# Altium schematic symbol library spacemonochrome-WR_TBL.SchLib: 1696 symbols (part 24 of 28)
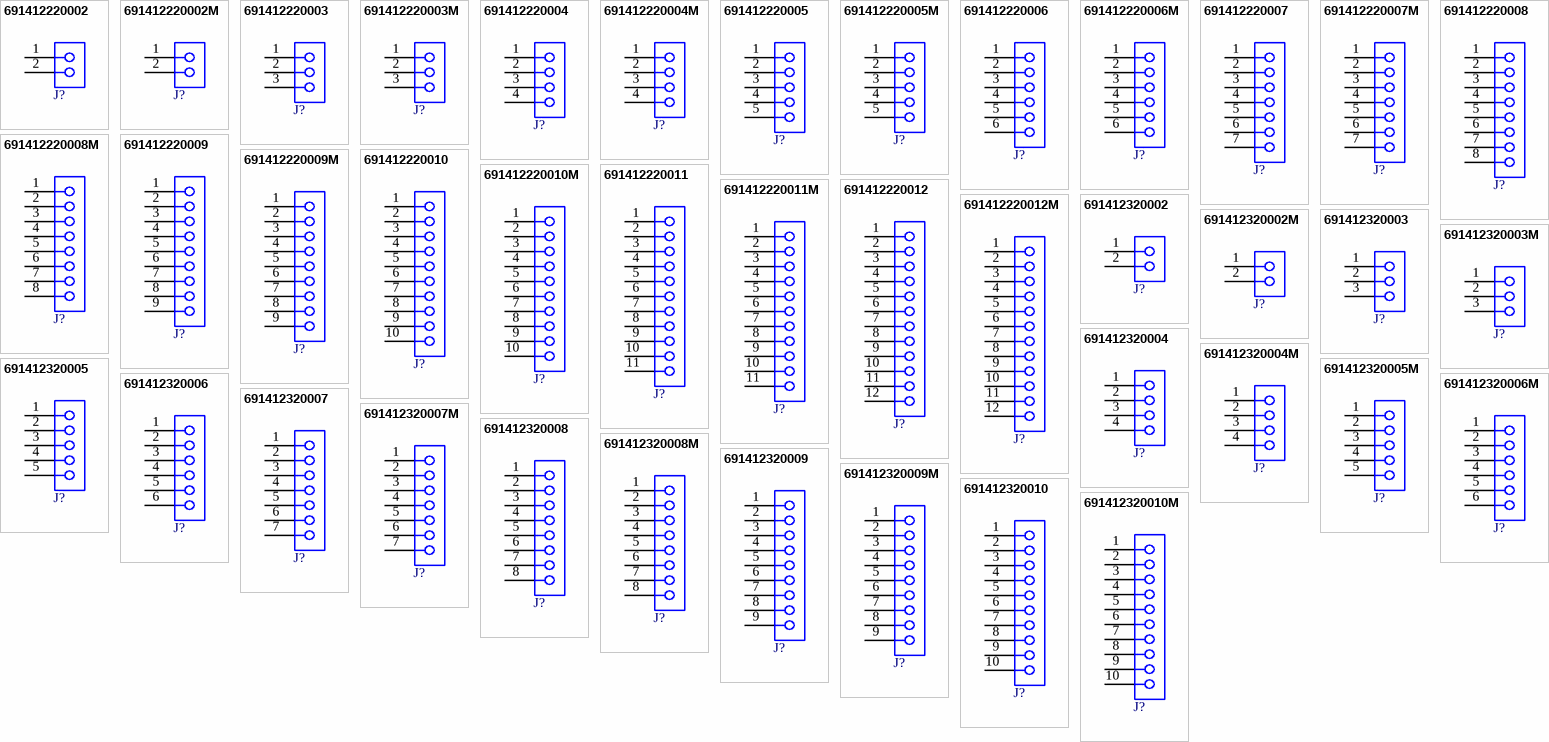
[diagram p65: symbols 691412220002 to 691412320010M]

## 691412320005
designator J?  (value not drawn)
WR-TBL Series 4123 45° Entry, THT, pitch 3.81mm, 5p; Manufacturer: Wurth Elektronik; Modularity: No; Rated Current: 4A; Working Voltage: 300V; ComponentLink1Description: Website Link; ComponentLink1URL: https://www.we-online.com/redexpert/article/691412320005?ad; ComponentLink2Description: Datasheet Link; ComponentLink2URL: https://www.we-online.com/redexpert/spec/691412320005?ad; Manufacturer Part Number: 691412320005; Category: Terminal Blocks; Match Code: WR-TBL; Mount: Through Hole; Operating Temperature Max: 120°C; Operating Temperature Min: -30°C; Packaging: Box; Application: Screwless; Number of Pins: 5; Number of Rows: 1; Orientation: 45°; Pitch: 3.81mm
footprint 691412320005
pins: 1, 2, 3, 4, 5

## 691412320005M
designator J?  (value not drawn)
WR-TBL Series 4123M 45° Entry, THT, pitch 3.81mm, 5p; Manufacturer: Wurth Elektronik; Modularity: No; Rated Current: 4A; Working Voltage: 300V; ComponentLink1Description: Website Link; ComponentLink1URL: https://www.we-online.com/redexpert/article/691412320005M?ad; ComponentLink2Description: Datasheet Link; ComponentLink2URL: https://www.we-online.com/redexpert/spec/691412320005M?ad; Manufacturer Part Number: 691412320005M; Category: Terminal Blocks; Match Code: WR-TBL; Mount: Through Hole; Operating Temperature Max: 120°C; Operating Temperature Min: -30°C; Packaging: Box; Application: Screwless; Number of Pins: 5; Number of Rows: 1; Orientation: 45°; Pitch: 3.81mm
footprint 691412320005M
pins: 1, 2, 3, 4, 5

## 691412320006
designator J?  (value not drawn)
WR-TBL Series 4123 45° Entry, THT, pitch 3.81mm, 6p; Manufacturer: Wurth Elektronik; Modularity: No; Rated Current: 4A; Working Voltage: 300V; ComponentLink1Description: Website Link; ComponentLink1URL: https://www.we-online.com/redexpert/article/691412320006?ad; ComponentLink2Description: Datasheet Link; ComponentLink2URL: https://www.we-online.com/redexpert/spec/691412320006?ad; Manufacturer Part Number: 691412320006; Category: Terminal Blocks; Match Code: WR-TBL; Mount: Through Hole; Operating Temperature Max: 120°C; Operating Temperature Min: -30°C; Packaging: Box; Application: Screwless; Number of Pins: 6; Number of Rows: 1; Orientation: 45°; Pitch: 3.81mm
footprint 691412320006
pins: 1, 2, 3, 4, 5, 6

## 691412320006M
designator J?  (value not drawn)
WR-TBL Series 4123M 45° Entry, THT, pitch 3.81mm, 6p; Manufacturer: Wurth Elektronik; Modularity: No; Rated Current: 4A; Working Voltage: 300V; ComponentLink1Description: Website Link; ComponentLink1URL: https://www.we-online.com/redexpert/article/691412320006M?ad; ComponentLink2Description: Datasheet Link; ComponentLink2URL: https://www.we-online.com/redexpert/spec/691412320006M?ad; Manufacturer Part Number: 691412320006M; Category: Terminal Blocks; Match Code: WR-TBL; Mount: Through Hole; Operating Temperature Max: 120°C; Operating Temperature Min: -30°C; Packaging: Box; Application: Screwless; Number of Pins: 6; Number of Rows: 1; Orientation: 45°; Pitch: 3.81mm
footprint 691412320006M
pins: 1, 2, 3, 4, 5, 6

## 691412320007
designator J?  (value not drawn)
WR-TBL Series 4123 45° Entry, THT, pitch 3.81mm, 7p; Manufacturer: Wurth Elektronik; Modularity: No; Rated Current: 4A; Working Voltage: 300V; ComponentLink1Description: Website Link; ComponentLink1URL: https://www.we-online.com/redexpert/article/691412320007?ad; ComponentLink2Description: Datasheet Link; ComponentLink2URL: https://www.we-online.com/redexpert/spec/691412320007?ad; Manufacturer Part Number: 691412320007; Category: Terminal Blocks; Match Code: WR-TBL; Mount: Through Hole; Operating Temperature Max: 120°C; Operating Temperature Min: -30°C; Packaging: Box; Application: Screwless; Number of Pins: 7; Number of Rows: 1; Orientation: 45°; Pitch: 3.81mm
footprint 691412320007
pins: 1, 2, 3, 4, 5, 6, 7

## 691412320007M
designator J?  (value not drawn)
WR-TBL Series 4123M 45° Entry, THT, pitch 3.81mm, 7p; Manufacturer: Wurth Elektronik; Modularity: No; Rated Current: 4A; Working Voltage: 300V; ComponentLink1Description: Website Link; ComponentLink1URL: https://www.we-online.com/redexpert/article/691412320007M?ad; ComponentLink2Description: Datasheet Link; ComponentLink2URL: https://www.we-online.com/redexpert/spec/691412320007M?ad; Manufacturer Part Number: 691412320007M; Category: Terminal Blocks; Match Code: WR-TBL; Mount: Through Hole; Operating Temperature Max: 120°C; Operating Temperature Min: -30°C; Packaging: Box; Application: Screwless; Number of Pins: 7; Number of Rows: 1; Orientation: 45°; Pitch: 3.81mm
footprint 691412320007M
pins: 1, 2, 3, 4, 5, 6, 7

## 691412320008
designator J?  (value not drawn)
WR-TBL Series 4123 45° Entry, THT, pitch 3.81mm, 8p; Manufacturer: Wurth Elektronik; Modularity: No; Rated Current: 4A; Working Voltage: 300V; ComponentLink1Description: Website Link; ComponentLink1URL: https://www.we-online.com/redexpert/article/691412320008?ad; ComponentLink2Description: Datasheet Link; ComponentLink2URL: https://www.we-online.com/redexpert/spec/691412320008?ad; Manufacturer Part Number: 691412320008; Category: Terminal Blocks; Match Code: WR-TBL; Mount: Through Hole; Operating Temperature Max: 120°C; Operating Temperature Min: -30°C; Packaging: Box; Application: Screwless; Number of Pins: 8; Number of Rows: 1; Orientation: 45°; Pitch: 3.81mm
footprint 691412320008
pins: 1, 2, 3, 4, 5, 6, 7, 8

## 691412320008M
designator J?  (value not drawn)
WR-TBL Series 4123M 45° Entry, THT, pitch 3.81mm, 8p; Manufacturer: Wurth Elektronik; Modularity: No; Rated Current: 4A; Working Voltage: 300V; ComponentLink1Description: Website Link; ComponentLink1URL: https://www.we-online.com/redexpert/article/691412320008M?ad; ComponentLink2Description: Datasheet Link; ComponentLink2URL: https://www.we-online.com/redexpert/spec/691412320008M?ad; Manufacturer Part Number: 691412320008M; Category: Terminal Blocks; Match Code: WR-TBL; Mount: Through Hole; Operating Temperature Max: 120°C; Operating Temperature Min: -30°C; Packaging: Box; Application: Screwless; Number of Pins: 8; Number of Rows: 1; Orientation: 45°; Pitch: 3.81mm
footprint 691412320008M
pins: 1, 2, 3, 4, 5, 6, 7, 8

## 691412320009
designator J?  (value not drawn)
WR-TBL Series 4123 45° Entry, THT, pitch 3.81mm, 9p; Manufacturer: Wurth Elektronik; Modularity: No; Rated Current: 4A; Working Voltage: 300V; ComponentLink1Description: Website Link; ComponentLink1URL: https://www.we-online.com/redexpert/article/691412320009?ad; ComponentLink2Description: Datasheet Link; ComponentLink2URL: https://www.we-online.com/redexpert/spec/691412320009?ad; Manufacturer Part Number: 691412320009; Category: Terminal Blocks; Match Code: WR-TBL; Mount: Through Hole; Operating Temperature Max: 120°C; Operating Temperature Min: -30°C; Packaging: Box; Application: Screwless; Number of Pins: 9; Number of Rows: 1; Orientation: 45°; Pitch: 3.81mm
footprint 691412320009
pins: 1, 2, 3, 4, 5, 6, 7, 8, 9

## 691412320009M
designator J?  (value not drawn)
WR-TBL Series 4123M 45° Entry, THT, pitch 3.81mm, 9p; Manufacturer: Wurth Elektronik; Modularity: No; Rated Current: 4A; Working Voltage: 300V; ComponentLink1Description: Website Link; ComponentLink1URL: https://www.we-online.com/redexpert/article/691412320009M?ad; ComponentLink2Description: Datasheet Link; ComponentLink2URL: https://www.we-online.com/redexpert/spec/691412320009M?ad; Manufacturer Part Number: 691412320009M; Category: Terminal Blocks; Match Code: WR-TBL; Mount: Through Hole; Operating Temperature Max: 120°C; Operating Temperature Min: -30°C; Packaging: Box; Application: Screwless; Number of Pins: 9; Number of Rows: 1; Orientation: 45°; Pitch: 3.81mm
footprint 691412320009M
pins: 1, 2, 3, 4, 5, 6, 7, 8, 9

## 691412320010
designator J?  (value not drawn)
WR-TBL Series 4123 45° Entry, THT, pitch 3.81mm, 10p; Manufacturer: Wurth Elektronik; Modularity: No; Rated Current: 4A; Working Voltage: 300V; ComponentLink1Description: Website Link; ComponentLink1URL: https://www.we-online.com/redexpert/article/691412320010?ad; ComponentLink2Description: Datasheet Link; ComponentLink2URL: https://www.we-online.com/redexpert/spec/691412320010?ad; Manufacturer Part Number: 691412320010; Category: Terminal Blocks; Match Code: WR-TBL; Mount: Through Hole; Operating Temperature Max: 120°C; Operating Temperature Min: -30°C; Packaging: Box; Application: Screwless; Number of Pins: 10; Number of Rows: 1; Orientation: 45°; Pitch: 3.81mm
footprint 691412320010
pins: 1, 2, 3, 4, 5, 6, 7, 8, 9, 10

## 691412320010M
designator J?  (value not drawn)
WR-TBL Series 4123M 45° Entry, THT, pitch 3.81mm, 10p; Manufacturer: Wurth Elektronik; Modularity: No; Rated Current: 4A; Working Voltage: 300V; ComponentLink1Description: Website Link; ComponentLink1URL: https://www.we-online.com/redexpert/article/691412320010M?ad; ComponentLink2Description: Datasheet Link; ComponentLink2URL: https://www.we-online.com/redexpert/spec/691412320010M?ad; Manufacturer Part Number: 691412320010M; Category: Terminal Blocks; Match Code: WR-TBL; Mount: Through Hole; Operating Temperature Max: 120°C; Operating Temperature Min: -30°C; Packaging: Box; Application: Screwless; Number of Pins: 10; Number of Rows: 1; Orientation: 45°; Pitch: 3.81mm
footprint 691412320010M
pins: 1, 2, 3, 4, 5, 6, 7, 8, 9, 10

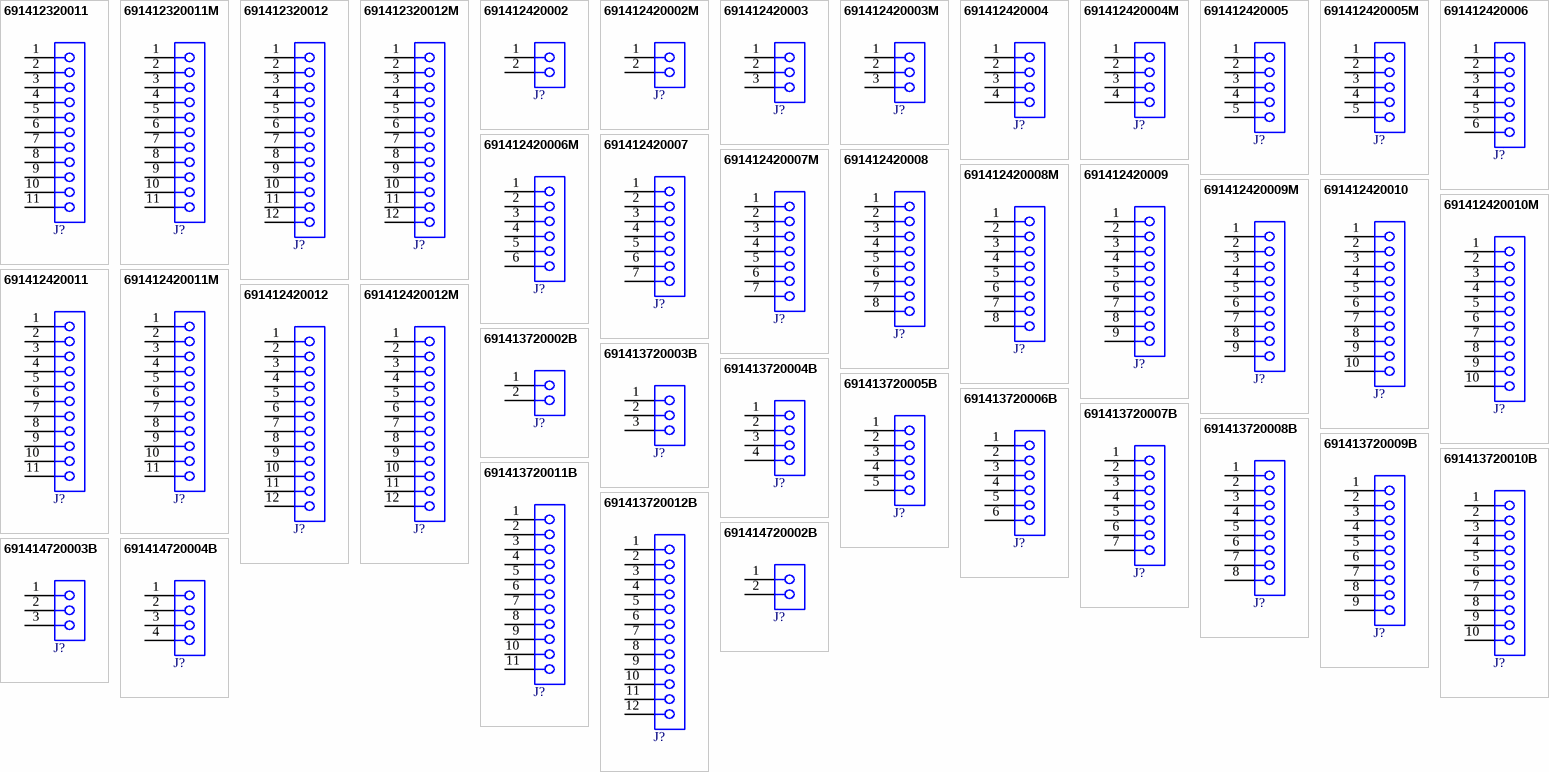
[diagram p36: symbols 691412320011 to 691414720004B]

## 691412320011
designator J?  (value not drawn)
WR-TBL Series 4123 45° Entry, THT, pitch 3.81mm, 11p; Manufacturer: Wurth Elektronik; Modularity: No; Rated Current: 4A; Working Voltage: 300V; ComponentLink1Description: Website Link; ComponentLink1URL: https://www.we-online.com/redexpert/article/691412320011?ad; ComponentLink2Description: Datasheet Link; ComponentLink2URL: https://www.we-online.com/redexpert/spec/691412320011?ad; Manufacturer Part Number: 691412320011; Category: Terminal Blocks; Match Code: WR-TBL; Mount: Through Hole; Operating Temperature Max: 120°C; Operating Temperature Min: -30°C; Packaging: Box; Application: Screwless; Number of Pins: 11; Number of Rows: 1; Orientation: 45°; Pitch: 3.81mm
footprint 691412320011
pins: 1, 2, 3, 4, 5, 6, 7, 8, 9, 10, 11

## 691412320011M
designator J?  (value not drawn)
WR-TBL Series 4123M 45° Entry, THT, pitch 3.81mm, 11p; Manufacturer: Wurth Elektronik; Modularity: No; Rated Current: 4A; Working Voltage: 300V; ComponentLink1Description: Website Link; ComponentLink1URL: https://www.we-online.com/redexpert/article/691412320011M?ad; ComponentLink2Description: Datasheet Link; ComponentLink2URL: https://www.we-online.com/redexpert/spec/691412320011M?ad; Manufacturer Part Number: 691412320011M; Category: Terminal Blocks; Match Code: WR-TBL; Mount: Through Hole; Operating Temperature Max: 120°C; Operating Temperature Min: -30°C; Packaging: Box; Application: Screwless; Number of Pins: 11; Number of Rows: 1; Orientation: 45°; Pitch: 3.81mm
footprint 691412320011M
pins: 1, 2, 3, 4, 5, 6, 7, 8, 9, 10, 11

## 691412320012
designator J?  (value not drawn)
WR-TBL Series 4123 45° Entry, THT, pitch 3.81mm, 12p; Manufacturer: Wurth Elektronik; Modularity: No; Rated Current: 4A; Working Voltage: 300V; ComponentLink1Description: Website Link; ComponentLink1URL: https://www.we-online.com/redexpert/article/691412320012?ad; ComponentLink2Description: Datasheet Link; ComponentLink2URL: https://www.we-online.com/redexpert/spec/691412320012?ad; Manufacturer Part Number: 691412320012; Category: Terminal Blocks; Match Code: WR-TBL; Mount: Through Hole; Operating Temperature Max: 120°C; Operating Temperature Min: -30°C; Packaging: Box; Application: Screwless; Number of Pins: 12; Number of Rows: 1; Orientation: 45°; Pitch: 3.81mm
footprint 691412320012
pins: 1, 2, 3, 4, 5, 6, 7, 8, 9, 10, 11, 12

## 691412320012M
designator J?  (value not drawn)
WR-TBL Series 4123M 45° Entry, THT, pitch 3.81mm, 12p; Manufacturer: Wurth Elektronik; Modularity: No; Rated Current: 4A; Working Voltage: 300V; ComponentLink1Description: Website Link; ComponentLink1URL: https://www.we-online.com/redexpert/article/691412320012M?ad; ComponentLink2Description: Datasheet Link; ComponentLink2URL: https://www.we-online.com/redexpert/spec/691412320012M?ad; Manufacturer Part Number: 691412320012M; Category: Terminal Blocks; Match Code: WR-TBL; Mount: Through Hole; Operating Temperature Max: 120°C; Operating Temperature Min: -30°C; Packaging: Box; Application: Screwless; Number of Pins: 12; Number of Rows: 1; Orientation: 45°; Pitch: 3.81mm
footprint 691412320012M
pins: 1, 2, 3, 4, 5, 6, 7, 8, 9, 10, 11, 12

## 691412420002
designator J?  (value not drawn)
WR-TBL Series 4124 45° Entry, THT, pitch 7.62mm, 2p; Manufacturer: Wurth Elektronik; Modularity: No; Rated Current: 4A; Working Voltage: 300V; ComponentLink1Description: Website Link; ComponentLink1URL: https://www.we-online.com/redexpert/article/691412420002?ad; ComponentLink2Description: Datasheet Link; ComponentLink2URL: https://www.we-online.com/redexpert/spec/691412420002?ad; Manufacturer Part Number: 691412420002; Category: Terminal Blocks; Match Code: WR-TBL; Mount: Through Hole; Operating Temperature Max: 120°C; Operating Temperature Min: -30°C; Packaging: Box; Application: Screwless; Number of Pins: 2; Number of Rows: 1; Orientation: 45°; Pitch: 7.62mm
footprint 691412420002
pins: 1, 2

## 691412420002M
designator J?  (value not drawn)
WR-TBL Series 4124M 45° Entry, THT, pitch 7.62mm, 2p; Manufacturer: Wurth Elektronik; Modularity: No; Rated Current: 4A; Working Voltage: 300V; ComponentLink1Description: Website Link; ComponentLink1URL: https://www.we-online.com/redexpert/article/691412420002M?ad; ComponentLink2Description: Datasheet Link; ComponentLink2URL: https://www.we-online.com/redexpert/spec/691412420002M?ad; Manufacturer Part Number: 691412420002M; Category: Terminal Blocks; Match Code: WR-TBL; Mount: Through Hole; Operating Temperature Max: 120°C; Operating Temperature Min: -30°C; Packaging: Box; Application: Screwless; Number of Pins: 2; Number of Rows: 1; Orientation: 45°; Pitch: 7.62mm
footprint 691412420002M
pins: 1, 2

## 691412420003
designator J?  (value not drawn)
WR-TBL Series 4124 45° Entry, THT, pitch 7.62mm, 3p; Manufacturer: Wurth Elektronik; Modularity: No; Rated Current: 4A; Working Voltage: 300V; ComponentLink1Description: Website Link; ComponentLink1URL: https://www.we-online.com/redexpert/article/691412420003?ad; ComponentLink2Description: Datasheet Link; ComponentLink2URL: https://www.we-online.com/redexpert/spec/691412420003?ad; Manufacturer Part Number: 691412420003; Category: Terminal Blocks; Match Code: WR-TBL; Mount: Through Hole; Operating Temperature Max: 120°C; Operating Temperature Min: -30°C; Packaging: Box; Application: Screwless; Number of Pins: 3; Number of Rows: 1; Orientation: 45°; Pitch: 7.62mm
footprint 691412420003
pins: 1, 2, 3

## 691412420003M
designator J?  (value not drawn)
WR-TBL Series 4124M 45° Entry, THT, pitch 7.62mm, 3p; Manufacturer: Wurth Elektronik; Modularity: No; Rated Current: 4A; Working Voltage: 300V; ComponentLink1Description: Website Link; ComponentLink1URL: https://www.we-online.com/redexpert/article/691412420003M?ad; ComponentLink2Description: Datasheet Link; ComponentLink2URL: https://www.we-online.com/redexpert/spec/691412420003M?ad; Manufacturer Part Number: 691412420003M; Category: Terminal Blocks; Match Code: WR-TBL; Mount: Through Hole; Operating Temperature Max: 120°C; Operating Temperature Min: -30°C; Packaging: Box; Application: Screwless; Number of Pins: 3; Number of Rows: 1; Orientation: 45°; Pitch: 7.62mm
footprint 691412420003M
pins: 1, 2, 3

## 691412420004
designator J?  (value not drawn)
WR-TBL Series 4124 45° Entry, THT, pitch 7.62mm, 4p; Manufacturer: Wurth Elektronik; Modularity: No; Rated Current: 4A; Working Voltage: 300V; ComponentLink1Description: Website Link; ComponentLink1URL: https://www.we-online.com/redexpert/article/691412420004?ad; ComponentLink2Description: Datasheet Link; ComponentLink2URL: https://www.we-online.com/redexpert/spec/691412420004?ad; Manufacturer Part Number: 691412420004; Category: Terminal Blocks; Match Code: WR-TBL; Mount: Through Hole; Operating Temperature Max: 120°C; Operating Temperature Min: -30°C; Packaging: Box; Application: Screwless; Number of Pins: 4; Number of Rows: 1; Orientation: 45°; Pitch: 7.62mm
footprint 691412420004
pins: 1, 2, 3, 4

## 691412420004M
designator J?  (value not drawn)
WR-TBL Series 4124M 45° Entry, THT, pitch 7.62mm, 4p; Manufacturer: Wurth Elektronik; Modularity: No; Rated Current: 4A; Working Voltage: 300V; ComponentLink1Description: Website Link; ComponentLink1URL: https://www.we-online.com/redexpert/article/691412420004M?ad; ComponentLink2Description: Datasheet Link; ComponentLink2URL: https://www.we-online.com/redexpert/spec/691412420004M?ad; Manufacturer Part Number: 691412420004M; Category: Terminal Blocks; Match Code: WR-TBL; Mount: Through Hole; Operating Temperature Max: 120°C; Operating Temperature Min: -30°C; Packaging: Box; Application: Screwless; Number of Pins: 4; Number of Rows: 1; Orientation: 45°; Pitch: 7.62mm
footprint 691412420004M
pins: 1, 2, 3, 4

## 691412420005
designator J?  (value not drawn)
WR-TBL Series 4124 45° Entry, THT, pitch 7.62mm, 5p; Manufacturer: Wurth Elektronik; Modularity: No; Rated Current: 4A; Working Voltage: 300V; ComponentLink1Description: Website Link; ComponentLink1URL: https://www.we-online.com/redexpert/article/691412420005?ad; ComponentLink2Description: Datasheet Link; ComponentLink2URL: https://www.we-online.com/redexpert/spec/691412420005?ad; Manufacturer Part Number: 691412420005; Category: Terminal Blocks; Match Code: WR-TBL; Mount: Through Hole; Operating Temperature Max: 120°C; Operating Temperature Min: -30°C; Packaging: Box; Application: Screwless; Number of Pins: 5; Number of Rows: 1; Orientation: 45°; Pitch: 7.62mm
footprint 691412420005
pins: 1, 2, 3, 4, 5

## 691412420005M
designator J?  (value not drawn)
WR-TBL Series 4124M 45° Entry, THT, pitch 7.62mm, 5p; Manufacturer: Wurth Elektronik; Modularity: No; Rated Current: 4A; Working Voltage: 300V; ComponentLink1Description: Website Link; ComponentLink1URL: https://www.we-online.com/redexpert/article/691412420005M?ad; ComponentLink2Description: Datasheet Link; ComponentLink2URL: https://www.we-online.com/redexpert/spec/691412420005M?ad; Manufacturer Part Number: 691412420005M; Category: Terminal Blocks; Match Code: WR-TBL; Mount: Through Hole; Operating Temperature Max: 120°C; Operating Temperature Min: -30°C; Packaging: Box; Application: Screwless; Number of Pins: 5; Number of Rows: 1; Orientation: 45°; Pitch: 7.62mm
footprint 691412420005M
pins: 1, 2, 3, 4, 5

## 691412420006
designator J?  (value not drawn)
WR-TBL Series 4124 45° Entry, THT, pitch 7.62mm, 6p; Manufacturer: Wurth Elektronik; Modularity: No; Rated Current: 4A; Working Voltage: 300V; ComponentLink1Description: Website Link; ComponentLink1URL: https://www.we-online.com/redexpert/article/691412420006?ad; ComponentLink2Description: Datasheet Link; ComponentLink2URL: https://www.we-online.com/redexpert/spec/691412420006?ad; Manufacturer Part Number: 691412420006; Category: Terminal Blocks; Match Code: WR-TBL; Mount: Through Hole; Operating Temperature Max: 120°C; Operating Temperature Min: -30°C; Packaging: Box; Application: Screwless; Number of Pins: 6; Number of Rows: 1; Orientation: 45°; Pitch: 7.62mm
footprint 691412420006
pins: 1, 2, 3, 4, 5, 6

## 691412420006M
designator J?  (value not drawn)
WR-TBL Series 4124M 45° Entry, THT, pitch 7.62mm, 6p; Manufacturer: Wurth Elektronik; Modularity: No; Rated Current: 4A; Working Voltage: 300V; ComponentLink1Description: Website Link; ComponentLink1URL: https://www.we-online.com/redexpert/article/691412420006M?ad; ComponentLink2Description: Datasheet Link; ComponentLink2URL: https://www.we-online.com/redexpert/spec/691412420006M?ad; Manufacturer Part Number: 691412420006M; Category: Terminal Blocks; Match Code: WR-TBL; Mount: Through Hole; Operating Temperature Max: 120°C; Operating Temperature Min: -30°C; Packaging: Box; Application: Screwless; Number of Pins: 6; Number of Rows: 1; Orientation: 45°; Pitch: 7.62mm
footprint 691412420006M
pins: 1, 2, 3, 4, 5, 6

## 691412420007
designator J?  (value not drawn)
WR-TBL Series 4124 45° Entry, THT, pitch 7.62mm, 7p; Manufacturer: Wurth Elektronik; Modularity: No; Rated Current: 4A; Working Voltage: 300V; ComponentLink1Description: Website Link; ComponentLink1URL: https://www.we-online.com/redexpert/article/691412420007?ad; ComponentLink2Description: Datasheet Link; ComponentLink2URL: https://www.we-online.com/redexpert/spec/691412420007?ad; Manufacturer Part Number: 691412420007; Category: Terminal Blocks; Match Code: WR-TBL; Mount: Through Hole; Operating Temperature Max: 120°C; Operating Temperature Min: -30°C; Packaging: Box; Application: Screwless; Number of Pins: 7; Number of Rows: 1; Orientation: 45°; Pitch: 7.62mm
footprint 691412420007
pins: 1, 2, 3, 4, 5, 6, 7

## 691412420007M
designator J?  (value not drawn)
WR-TBL Series 4124M 45° Entry, THT, pitch 7.62mm, 7p; Manufacturer: Wurth Elektronik; Modularity: No; Rated Current: 4A; Working Voltage: 300V; ComponentLink1Description: Website Link; ComponentLink1URL: https://www.we-online.com/redexpert/article/691412420007M?ad; ComponentLink2Description: Datasheet Link; ComponentLink2URL: https://www.we-online.com/redexpert/spec/691412420007M?ad; Manufacturer Part Number: 691412420007M; Category: Terminal Blocks; Match Code: WR-TBL; Mount: Through Hole; Operating Temperature Max: 120°C; Operating Temperature Min: -30°C; Packaging: Box; Application: Screwless; Number of Pins: 7; Number of Rows: 1; Orientation: 45°; Pitch: 7.62mm
footprint 691412420007M
pins: 1, 2, 3, 4, 5, 6, 7

## 691412420008
designator J?  (value not drawn)
WR-TBL Series 4124 45° Entry, THT, pitch 7.62mm, 8p; Manufacturer: Wurth Elektronik; Modularity: No; Rated Current: 4A; Working Voltage: 300V; ComponentLink1Description: Website Link; ComponentLink1URL: https://www.we-online.com/redexpert/article/691412420008?ad; ComponentLink2Description: Datasheet Link; ComponentLink2URL: https://www.we-online.com/redexpert/spec/691412420008?ad; Manufacturer Part Number: 691412420008; Category: Terminal Blocks; Match Code: WR-TBL; Mount: Through Hole; Operating Temperature Max: 120°C; Operating Temperature Min: -30°C; Packaging: Box; Application: Screwless; Number of Pins: 8; Number of Rows: 1; Orientation: 45°; Pitch: 7.62mm
footprint 691412420008
pins: 1, 2, 3, 4, 5, 6, 7, 8

## 691412420008M
designator J?  (value not drawn)
WR-TBL Series 4124M 45° Entry, THT, pitch 7.62mm, 8p; Manufacturer: Wurth Elektronik; Modularity: No; Rated Current: 4A; Working Voltage: 300V; ComponentLink1Description: Website Link; ComponentLink1URL: https://www.we-online.com/redexpert/article/691412420008M?ad; ComponentLink2Description: Datasheet Link; ComponentLink2URL: https://www.we-online.com/redexpert/spec/691412420008M?ad; Manufacturer Part Number: 691412420008M; Category: Terminal Blocks; Match Code: WR-TBL; Mount: Through Hole; Operating Temperature Max: 120°C; Operating Temperature Min: -30°C; Packaging: Box; Application: Screwless; Number of Pins: 8; Number of Rows: 1; Orientation: 45°; Pitch: 7.62mm
footprint 691412420008M
pins: 1, 2, 3, 4, 5, 6, 7, 8

## 691412420009
designator J?  (value not drawn)
WR-TBL Series 4124 45° Entry, THT, pitch 7.62mm, 9p; Manufacturer: Wurth Elektronik; Modularity: No; Rated Current: 4A; Working Voltage: 300V; ComponentLink1Description: Website Link; ComponentLink1URL: https://www.we-online.com/redexpert/article/691412420009?ad; ComponentLink2Description: Datasheet Link; ComponentLink2URL: https://www.we-online.com/redexpert/spec/691412420009?ad; Manufacturer Part Number: 691412420009; Category: Terminal Blocks; Match Code: WR-TBL; Mount: Through Hole; Operating Temperature Max: 120°C; Operating Temperature Min: -30°C; Packaging: Box; Application: Screwless; Number of Pins: 9; Number of Rows: 1; Orientation: 45°; Pitch: 7.62mm
footprint 691412420009
pins: 1, 2, 3, 4, 5, 6, 7, 8, 9

## 691412420009M
designator J?  (value not drawn)
WR-TBL Series 4124M 45° Entry, THT, pitch 7.62mm, 9p; Manufacturer: Wurth Elektronik; Modularity: No; Rated Current: 4A; Working Voltage: 300V; ComponentLink1Description: Website Link; ComponentLink1URL: https://www.we-online.com/redexpert/article/691412420009M?ad; ComponentLink2Description: Datasheet Link; ComponentLink2URL: https://www.we-online.com/redexpert/spec/691412420009M?ad; Manufacturer Part Number: 691412420009M; Category: Terminal Blocks; Match Code: WR-TBL; Mount: Through Hole; Operating Temperature Max: 120°C; Operating Temperature Min: -30°C; Packaging: Box; Application: Screwless; Number of Pins: 9; Number of Rows: 1; Orientation: 45°; Pitch: 7.62mm
footprint 691412420009M
pins: 1, 2, 3, 4, 5, 6, 7, 8, 9

## 691412420010
designator J?  (value not drawn)
WR-TBL Series 4124 45° Entry, THT, pitch 7.62mm, 10p; Manufacturer: Wurth Elektronik; Modularity: No; Rated Current: 4A; Working Voltage: 300V; ComponentLink1Description: Website Link; ComponentLink1URL: https://www.we-online.com/redexpert/article/691412420010?ad; ComponentLink2Description: Datasheet Link; ComponentLink2URL: https://www.we-online.com/redexpert/spec/691412420010?ad; Manufacturer Part Number: 691412420010; Category: Terminal Blocks; Match Code: WR-TBL; Mount: Through Hole; Operating Temperature Max: 120°C; Operating Temperature Min: -30°C; Packaging: Box; Application: Screwless; Number of Pins: 10; Number of Rows: 1; Orientation: 45°; Pitch: 7.62mm
footprint 691412420010
pins: 1, 2, 3, 4, 5, 6, 7, 8, 9, 10

## 691412420010M
designator J?  (value not drawn)
WR-TBL Series 4124M 45° Entry, THT, pitch 7.62mm, 10p; Manufacturer: Wurth Elektronik; Modularity: No; Rated Current: 4A; Working Voltage: 300V; ComponentLink1Description: Website Link; ComponentLink1URL: https://www.we-online.com/redexpert/article/691412420010M?ad; ComponentLink2Description: Datasheet Link; ComponentLink2URL: https://www.we-online.com/redexpert/spec/691412420010M?ad; Manufacturer Part Number: 691412420010M; Category: Terminal Blocks; Match Code: WR-TBL; Mount: Through Hole; Operating Temperature Max: 120°C; Operating Temperature Min: -30°C; Packaging: Box; Application: Screwless; Number of Pins: 10; Number of Rows: 1; Orientation: 45°; Pitch: 7.62mm
footprint 691412420010M
pins: 1, 2, 3, 4, 5, 6, 7, 8, 9, 10

## 691412420011
designator J?  (value not drawn)
WR-TBL Series 4124 45° Entry, THT, pitch 7.62mm, 11p; Manufacturer: Wurth Elektronik; Modularity: No; Rated Current: 4A; Working Voltage: 300V; ComponentLink1Description: Website Link; ComponentLink1URL: https://www.we-online.com/redexpert/article/691412420011?ad; ComponentLink2Description: Datasheet Link; ComponentLink2URL: https://www.we-online.com/redexpert/spec/691412420011?ad; Manufacturer Part Number: 691412420011; Category: Terminal Blocks; Match Code: WR-TBL; Mount: Through Hole; Operating Temperature Max: 120°C; Operating Temperature Min: -30°C; Packaging: Box; Application: Screwless; Number of Pins: 11; Number of Rows: 1; Orientation: 45°; Pitch: 7.62mm
footprint 691412420011
pins: 1, 2, 3, 4, 5, 6, 7, 8, 9, 10, 11

## 691412420011M
designator J?  (value not drawn)
WR-TBL Series 4124M 45° Entry, THT, pitch 7.62mm, 11p; Manufacturer: Wurth Elektronik; Modularity: No; Rated Current: 4A; Working Voltage: 300V; ComponentLink1Description: Website Link; ComponentLink1URL: https://www.we-online.com/redexpert/article/691412420011M?ad; ComponentLink2Description: Datasheet Link; ComponentLink2URL: https://www.we-online.com/redexpert/spec/691412420011M?ad; Manufacturer Part Number: 691412420011M; Category: Terminal Blocks; Match Code: WR-TBL; Mount: Through Hole; Operating Temperature Max: 120°C; Operating Temperature Min: -30°C; Packaging: Box; Application: Screwless; Number of Pins: 11; Number of Rows: 1; Orientation: 45°; Pitch: 7.62mm
footprint 691412420011M
pins: 1, 2, 3, 4, 5, 6, 7, 8, 9, 10, 11

## 691412420012
designator J?  (value not drawn)
WR-TBL Series 4124 45° Entry, THT, pitch 7.62mm, 12p; Manufacturer: Wurth Elektronik; Modularity: No; Rated Current: 4A; Working Voltage: 300V; ComponentLink1Description: Website Link; ComponentLink1URL: https://www.we-online.com/redexpert/article/691412420012?ad; ComponentLink2Description: Datasheet Link; ComponentLink2URL: https://www.we-online.com/redexpert/spec/691412420012?ad; Manufacturer Part Number: 691412420012; Category: Terminal Blocks; Match Code: WR-TBL; Mount: Through Hole; Operating Temperature Max: 120°C; Operating Temperature Min: -30°C; Packaging: Box; Application: Screwless; Number of Pins: 12; Number of Rows: 1; Orientation: 45°; Pitch: 7.62mm
footprint 691412420012
pins: 1, 2, 3, 4, 5, 6, 7, 8, 9, 10, 11, 12

## 691412420012M
designator J?  (value not drawn)
WR-TBL Series 4124M 45° Entry, THT, pitch 7.62mm, 12p; Manufacturer: Wurth Elektronik; Modularity: No; Rated Current: 4A; Working Voltage: 300V; ComponentLink1Description: Website Link; ComponentLink1URL: https://www.we-online.com/redexpert/article/691412420012M?ad; ComponentLink2Description: Datasheet Link; ComponentLink2URL: https://www.we-online.com/redexpert/spec/691412420012M?ad; Manufacturer Part Number: 691412420012M; Category: Terminal Blocks; Match Code: WR-TBL; Mount: Through Hole; Operating Temperature Max: 120°C; Operating Temperature Min: -30°C; Packaging: Box; Application: Screwless; Number of Pins: 12; Number of Rows: 1; Orientation: 45°; Pitch: 7.62mm
footprint 691412420012M
pins: 1, 2, 3, 4, 5, 6, 7, 8, 9, 10, 11, 12

## 691413720002B
designator J?  (value not drawn)
WR-TBL Series 413B 45° Entry, THT, pitch 5mm, 2p; Manufacturer: Wurth Elektronik; Modularity: No; Rated Current: 15A; Working Voltage: 300V; ComponentLink1Description: Website Link; ComponentLink1URL: https://www.we-online.com/redexpert/article/691413720002B?ad; ComponentLink2Description: Datasheet Link; ComponentLink2URL: https://www.we-online.com/redexpert/spec/691413720002B?ad; Manufacturer Part Number: 691413720002B; Category: Terminal Blocks; Match Code: WR-TBL; Mount: Through Hole; Operating Temperature Max: 115°C; Operating Temperature Min: -40°C; Packaging: Box; Application: Screwless; Number of Pins: 2; Number of Rows: 1; Orientation: 45°; Pitch: 5mm
footprint 691413720002B
pins: 1, 2

## 691413720003B
designator J?  (value not drawn)
WR-TBL Series 413B 45° Entry, THT, pitch 5mm, 3p; Manufacturer: Wurth Elektronik; Modularity: No; Rated Current: 15A; Working Voltage: 300V; ComponentLink1Description: Website Link; ComponentLink1URL: https://www.we-online.com/redexpert/article/691413720003B?ad; ComponentLink2Description: Datasheet Link; ComponentLink2URL: https://www.we-online.com/redexpert/spec/691413720003B?ad; Manufacturer Part Number: 691413720003B; Category: Terminal Blocks; Match Code: WR-TBL; Mount: Through Hole; Operating Temperature Max: 115°C; Operating Temperature Min: -40°C; Packaging: Box; Application: Screwless; Number of Pins: 3; Number of Rows: 1; Orientation: 45°; Pitch: 5mm
footprint 691413720003B
pins: 1, 2, 3

## 691413720004B
designator J?  (value not drawn)
WR-TBL Series 413B 45° Entry, THT, pitch 5mm, 4p; Manufacturer: Wurth Elektronik; Modularity: No; Rated Current: 15A; Working Voltage: 300V; ComponentLink1Description: Website Link; ComponentLink1URL: https://www.we-online.com/redexpert/article/691413720004B?ad; ComponentLink2Description: Datasheet Link; ComponentLink2URL: https://www.we-online.com/redexpert/spec/691413720004B?ad; Manufacturer Part Number: 691413720004B; Category: Terminal Blocks; Match Code: WR-TBL; Mount: Through Hole; Operating Temperature Max: 115°C; Operating Temperature Min: -40°C; Packaging: Box; Application: Screwless; Number of Pins: 4; Number of Rows: 1; Orientation: 45°; Pitch: 5mm
footprint 691413720004B
pins: 1, 2, 3, 4

## 691413720005B
designator J?  (value not drawn)
WR-TBL Series 413B 45° Entry, THT, pitch 5mm, 5p; Manufacturer: Wurth Elektronik; Modularity: No; Rated Current: 15A; Working Voltage: 300V; ComponentLink1Description: Website Link; ComponentLink1URL: https://www.we-online.com/redexpert/article/691413720005B?ad; ComponentLink2Description: Datasheet Link; ComponentLink2URL: https://www.we-online.com/redexpert/spec/691413720005B?ad; Manufacturer Part Number: 691413720005B; Category: Terminal Blocks; Match Code: WR-TBL; Mount: Through Hole; Operating Temperature Max: 115°C; Operating Temperature Min: -40°C; Packaging: Box; Application: Screwless; Number of Pins: 5; Number of Rows: 1; Orientation: 45°; Pitch: 5mm
footprint 691413720005B
pins: 1, 2, 3, 4, 5

## 691413720006B
designator J?  (value not drawn)
WR-TBL Series 413B 45° Entry, THT, pitch 5mm, 6p; Manufacturer: Wurth Elektronik; Modularity: No; Rated Current: 15A; Working Voltage: 300V; ComponentLink1Description: Website Link; ComponentLink1URL: https://www.we-online.com/redexpert/article/691413720006B?ad; ComponentLink2Description: Datasheet Link; ComponentLink2URL: https://www.we-online.com/redexpert/spec/691413720006B?ad; Manufacturer Part Number: 691413720006B; Category: Terminal Blocks; Match Code: WR-TBL; Mount: Through Hole; Operating Temperature Max: 115°C; Operating Temperature Min: -40°C; Packaging: Box; Application: Screwless; Number of Pins: 6; Number of Rows: 1; Orientation: 45°; Pitch: 5mm
footprint 691413720006B
pins: 1, 2, 3, 4, 5, 6

## 691413720007B
designator J?  (value not drawn)
WR-TBL Series 413B 45° Entry, THT, pitch 5mm, 7p; Manufacturer: Wurth Elektronik; Modularity: No; Rated Current: 15A; Working Voltage: 300V; ComponentLink1Description: Website Link; ComponentLink1URL: https://www.we-online.com/redexpert/article/691413720007B?ad; ComponentLink2Description: Datasheet Link; ComponentLink2URL: https://www.we-online.com/redexpert/spec/691413720007B?ad; Manufacturer Part Number: 691413720007B; Category: Terminal Blocks; Match Code: WR-TBL; Mount: Through Hole; Operating Temperature Max: 115°C; Operating Temperature Min: -40°C; Packaging: Box; Application: Screwless; Number of Pins: 7; Number of Rows: 1; Orientation: 45°; Pitch: 5mm
footprint 691413720007B
pins: 1, 2, 3, 4, 5, 6, 7

## 691413720008B
designator J?  (value not drawn)
WR-TBL Series 413B 45° Entry, THT, pitch 5mm, 8p; Manufacturer: Wurth Elektronik; Modularity: No; Rated Current: 15A; Working Voltage: 300V; ComponentLink1Description: Website Link; ComponentLink1URL: https://www.we-online.com/redexpert/article/691413720008B?ad; ComponentLink2Description: Datasheet Link; ComponentLink2URL: https://www.we-online.com/redexpert/spec/691413720008B?ad; Manufacturer Part Number: 691413720008B; Category: Terminal Blocks; Match Code: WR-TBL; Mount: Through Hole; Operating Temperature Max: 115°C; Operating Temperature Min: -40°C; Packaging: Box; Application: Screwless; Number of Pins: 8; Number of Rows: 1; Orientation: 45°; Pitch: 5mm
footprint 691413720008B
pins: 1, 2, 3, 4, 5, 6, 7, 8

## 691413720009B
designator J?  (value not drawn)
WR-TBL Series 413B 45° Entry, THT, pitch 5mm, 9p; Manufacturer: Wurth Elektronik; Modularity: No; Rated Current: 15A; Working Voltage: 300V; ComponentLink1Description: Website Link; ComponentLink1URL: https://www.we-online.com/redexpert/article/691413720009B?ad; ComponentLink2Description: Datasheet Link; ComponentLink2URL: https://www.we-online.com/redexpert/spec/691413720009B?ad; Manufacturer Part Number: 691413720009B; Category: Terminal Blocks; Match Code: WR-TBL; Mount: Through Hole; Operating Temperature Max: 115°C; Operating Temperature Min: -40°C; Packaging: Box; Application: Screwless; Number of Pins: 9; Number of Rows: 1; Orientation: 45°; Pitch: 5mm
footprint 691413720009B
pins: 1, 2, 3, 4, 5, 6, 7, 8, 9

## 691413720010B
designator J?  (value not drawn)
WR-TBL Series 413B 45° Entry, THT, pitch 5mm, 10p; Manufacturer: Wurth Elektronik; Modularity: No; Rated Current: 15A; Working Voltage: 300V; ComponentLink1Description: Website Link; ComponentLink1URL: https://www.we-online.com/redexpert/article/691413720010B?ad; ComponentLink2Description: Datasheet Link; ComponentLink2URL: https://www.we-online.com/redexpert/spec/691413720010B?ad; Manufacturer Part Number: 691413720010B; Category: Terminal Blocks; Match Code: WR-TBL; Mount: Through Hole; Operating Temperature Max: 115°C; Operating Temperature Min: -40°C; Packaging: Box; Application: Screwless; Number of Pins: 10; Number of Rows: 1; Orientation: 45°; Pitch: 5mm
footprint 691413720010B
pins: 1, 2, 3, 4, 5, 6, 7, 8, 9, 10

## 691413720011B
designator J?  (value not drawn)
WR-TBL Series 413B 45° Entry, THT, pitch 5mm, 11p; Manufacturer: Wurth Elektronik; Modularity: No; Rated Current: 15A; Working Voltage: 300V; ComponentLink1Description: Website Link; ComponentLink1URL: https://www.we-online.com/redexpert/article/691413720011B?ad; ComponentLink2Description: Datasheet Link; ComponentLink2URL: https://www.we-online.com/redexpert/spec/691413720011B?ad; Manufacturer Part Number: 691413720011B; Category: Terminal Blocks; Match Code: WR-TBL; Mount: Through Hole; Operating Temperature Max: 115°C; Operating Temperature Min: -40°C; Packaging: Box; Application: Screwless; Number of Pins: 11; Number of Rows: 1; Orientation: 45°; Pitch: 5mm
footprint 691413720011B
pins: 1, 2, 3, 4, 5, 6, 7, 8, 9, 10, 11

## 691413720012B
designator J?  (value not drawn)
WR-TBL Series 413B 45° Entry, THT, pitch 5mm, 12p; Manufacturer: Wurth Elektronik; Modularity: No; Rated Current: 15A; Working Voltage: 300V; ComponentLink1Description: Website Link; ComponentLink1URL: https://www.we-online.com/redexpert/article/691413720012B?ad; ComponentLink2Description: Datasheet Link; ComponentLink2URL: https://www.we-online.com/redexpert/spec/691413720012B?ad; Manufacturer Part Number: 691413720012B; Category: Terminal Blocks; Match Code: WR-TBL; Mount: Through Hole; Operating Temperature Max: 115°C; Operating Temperature Min: -40°C; Packaging: Box; Application: Screwless; Number of Pins: 12; Number of Rows: 1; Orientation: 45°; Pitch: 5mm
footprint 691413720012B
pins: 1, 2, 3, 4, 5, 6, 7, 8, 9, 10, 11, 12

## 691414720002B
designator J?  (value not drawn)
WR-TBL Series 4147B 45° Entry, THT, pitch 5mm, 2p; Manufacturer: Wurth Elektronik; Modularity: No; Rated Current: 16A; Working Voltage: 300V; ComponentLink1Description: Website Link; ComponentLink1URL: https://www.we-online.com/redexpert/article/691414720002B?ad; ComponentLink2Description: Datasheet Link; ComponentLink2URL: https://www.we-online.com/redexpert/spec/691414720002B?ad; Manufacturer Part Number: 691414720002B; Category: Terminal Blocks; Match Code: WR-TBL; Mount: Through Hole; Operating Temperature Max: 105°C; Operating Temperature Min: -40°C; Packaging: Box; Application: Screwless; Number of Pins: 2; Number of Rows: 1; Orientation: 45°; Pitch: 5mm
footprint 691414720002B
pins: 1, 2

## 691414720003B
designator J?  (value not drawn)
WR-TBL Series 4147B 45° Entry, THT, pitch 5mm, 3p; Manufacturer: Wurth Elektronik; Modularity: No; Rated Current: 16A; Working Voltage: 300V; ComponentLink1Description: Website Link; ComponentLink1URL: https://www.we-online.com/redexpert/article/691414720003B?ad; ComponentLink2Description: Datasheet Link; ComponentLink2URL: https://www.we-online.com/redexpert/spec/691414720003B?ad; Manufacturer Part Number: 691414720003B; Category: Terminal Blocks; Match Code: WR-TBL; Mount: Through Hole; Operating Temperature Max: 105°C; Operating Temperature Min: -40°C; Packaging: Box; Application: Screwless; Number of Pins: 3; Number of Rows: 1; Orientation: 45°; Pitch: 5mm
footprint 691414720003B
pins: 1, 2, 3

## 691414720004B
designator J?  (value not drawn)
WR-TBL Series 4147B 45° Entry, THT, pitch 5mm, 4p; Manufacturer: Wurth Elektronik; Modularity: No; Rated Current: 16A; Working Voltage: 300V; ComponentLink1Description: Website Link; ComponentLink1URL: https://www.we-online.com/redexpert/article/691414720004B?ad; ComponentLink2Description: Datasheet Link; ComponentLink2URL: https://www.we-online.com/redexpert/spec/691414720004B?ad; Manufacturer Part Number: 691414720004B; Category: Terminal Blocks; Match Code: WR-TBL; Mount: Through Hole; Operating Temperature Max: 105°C; Operating Temperature Min: -40°C; Packaging: Box; Application: Screwless; Number of Pins: 4; Number of Rows: 1; Orientation: 45°; Pitch: 5mm
footprint 691414720004B
pins: 1, 2, 3, 4

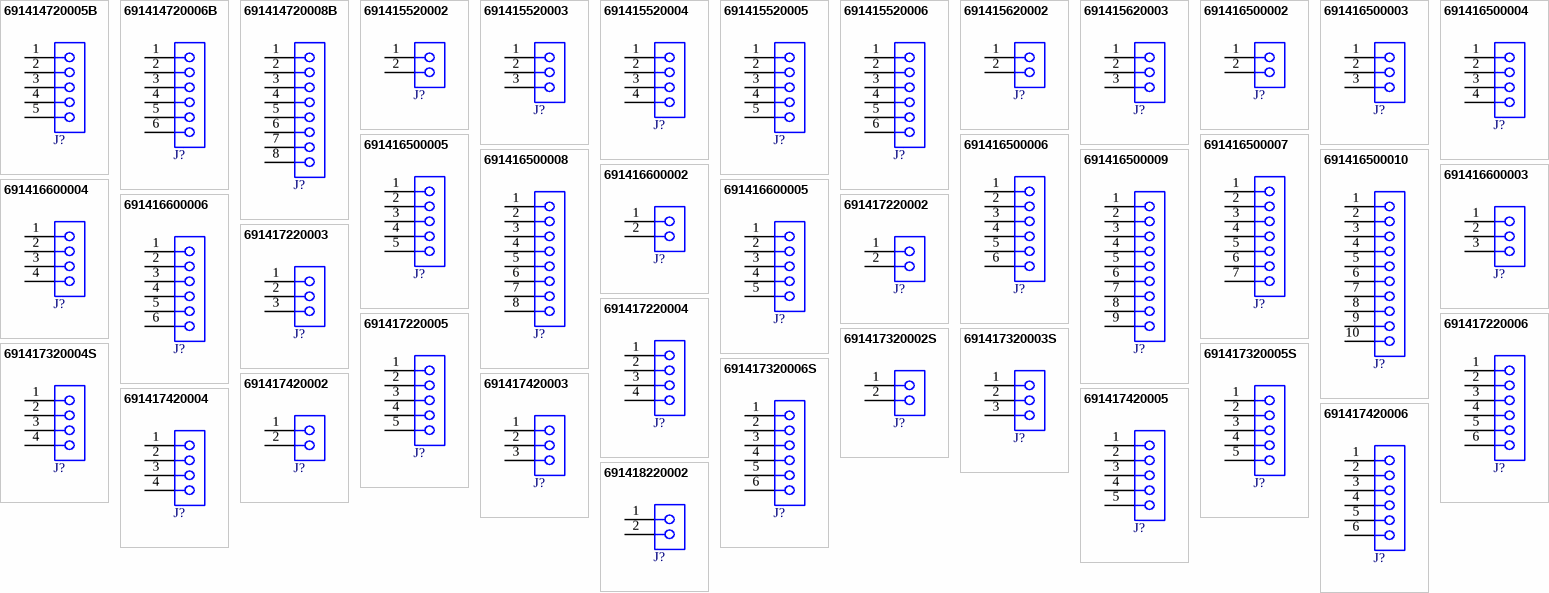
[diagram p37: symbols 691414720005B to 691418220002]

## 691414720005B
designator J?  (value not drawn)
WR-TBL Series 4147B 45° Entry, THT, pitch 5mm, 5p; Manufacturer: Wurth Elektronik; Modularity: No; Rated Current: 16A; Working Voltage: 300V; ComponentLink1Description: Website Link; ComponentLink1URL: https://www.we-online.com/redexpert/article/691414720005B?ad; ComponentLink2Description: Datasheet Link; ComponentLink2URL: https://www.we-online.com/redexpert/spec/691414720005B?ad; Manufacturer Part Number: 691414720005B; Category: Terminal Blocks; Match Code: WR-TBL; Mount: Through Hole; Operating Temperature Max: 105°C; Operating Temperature Min: -40°C; Packaging: Box; Application: Screwless; Number of Pins: 5; Number of Rows: 1; Orientation: 45°; Pitch: 5mm
footprint 691414720005B
pins: 1, 2, 3, 4, 5

## 691414720006B
designator J?  (value not drawn)
WR-TBL Series 4147B 45° Entry, THT, pitch 5mm, 6p; Manufacturer: Wurth Elektronik; Modularity: No; Rated Current: 16A; Working Voltage: 300V; ComponentLink1Description: Website Link; ComponentLink1URL: https://www.we-online.com/redexpert/article/691414720006B?ad; ComponentLink2Description: Datasheet Link; ComponentLink2URL: https://www.we-online.com/redexpert/spec/691414720006B?ad; Manufacturer Part Number: 691414720006B; Category: Terminal Blocks; Match Code: WR-TBL; Mount: Through Hole; Operating Temperature Max: 105°C; Operating Temperature Min: -40°C; Packaging: Box; Application: Screwless; Number of Pins: 6; Number of Rows: 1; Orientation: 45°; Pitch: 5mm
footprint 691414720006B
pins: 1, 2, 3, 4, 5, 6

## 691414720008B
designator J?  (value not drawn)
WR-TBL Series 4147B 45° Entry, THT, pitch 5mm, 8p; Manufacturer: Wurth Elektronik; Modularity: No; Rated Current: 16A; Working Voltage: 300V; ComponentLink1Description: Website Link; ComponentLink1URL: https://www.we-online.com/redexpert/article/691414720008B?ad; ComponentLink2Description: Datasheet Link; ComponentLink2URL: https://www.we-online.com/redexpert/spec/691414720008B?ad; Manufacturer Part Number: 691414720008B; Category: Terminal Blocks; Match Code: WR-TBL; Mount: Through Hole; Operating Temperature Max: 105°C; Operating Temperature Min: -40°C; Packaging: Box; Application: Screwless; Number of Pins: 8; Number of Rows: 1; Orientation: 45°; Pitch: 5mm
footprint 691414720008B
pins: 1, 2, 3, 4, 5, 6, 7, 8

## 691415520002
designator J?  (value not drawn)
WR-TBL Series 4155 45° Entry, THT, pitch 5.08mm, 2p; Manufacturer: Wurth Elektronik; Modularity: No; Rated Current: 10A; Working Voltage: 300V; ComponentLink1Description: Website Link; ComponentLink1URL: https://www.we-online.com/redexpert/article/691415520002?ad; ComponentLink2Description: Datasheet Link; ComponentLink2URL: https://www.we-online.com/redexpert/spec/691415520002?ad; Manufacturer Part Number: 691415520002; Category: Terminal Blocks; Match Code: WR-TBL; Mount: Through Hole; Operating Temperature Max: 120°C; Operating Temperature Min: -30°C; Packaging: Box; Application: Screwless; Number of Pins: 2; Number of Rows: 1; Orientation: 45°; Pitch: 5.08mm
footprint 691415520002
pins: 1, 2

## 691415520003
designator J?  (value not drawn)
WR-TBL Series 4155 45° Entry, THT, pitch 5.08mm, 3p; Manufacturer: Wurth Elektronik; Modularity: No; Rated Current: 10A; Working Voltage: 300V; ComponentLink1Description: Website Link; ComponentLink1URL: https://www.we-online.com/redexpert/article/691415520003?ad; ComponentLink2Description: Datasheet Link; ComponentLink2URL: https://www.we-online.com/redexpert/spec/691415520003?ad; Manufacturer Part Number: 691415520003; Category: Terminal Blocks; Match Code: WR-TBL; Mount: Through Hole; Operating Temperature Max: 120°C; Operating Temperature Min: -30°C; Packaging: Box; Application: Screwless; Number of Pins: 3; Number of Rows: 1; Orientation: 45°; Pitch: 5.08mm
footprint 691415520003
pins: 1, 2, 3

## 691415520004
designator J?  (value not drawn)
WR-TBL Series 4155 45° Entry, THT, pitch 5.08mm, 4p; Manufacturer: Wurth Elektronik; Modularity: No; Rated Current: 10A; Working Voltage: 300V; ComponentLink1Description: Website Link; ComponentLink1URL: https://www.we-online.com/redexpert/article/691415520004?ad; ComponentLink2Description: Datasheet Link; ComponentLink2URL: https://www.we-online.com/redexpert/spec/691415520004?ad; Manufacturer Part Number: 691415520004; Category: Terminal Blocks; Match Code: WR-TBL; Mount: Through Hole; Operating Temperature Max: 120°C; Operating Temperature Min: -30°C; Packaging: Box; Application: Screwless; Number of Pins: 4; Number of Rows: 1; Orientation: 45°; Pitch: 5.08mm
footprint 691415520004
pins: 1, 2, 3, 4

## 691415520005
designator J?  (value not drawn)
WR-TBL Series 4155 45° Entry, THT, pitch 5.08mm, 5p; Manufacturer: Wurth Elektronik; Modularity: No; Rated Current: 10A; Working Voltage: 300V; ComponentLink1Description: Website Link; ComponentLink1URL: https://www.we-online.com/redexpert/article/691415520005?ad; ComponentLink2Description: Datasheet Link; ComponentLink2URL: https://www.we-online.com/redexpert/spec/691415520005?ad; Manufacturer Part Number: 691415520005; Category: Terminal Blocks; Match Code: WR-TBL; Mount: Through Hole; Operating Temperature Max: 120°C; Operating Temperature Min: -30°C; Packaging: Box; Application: Screwless; Number of Pins: 5; Number of Rows: 1; Orientation: 45°; Pitch: 5.08mm
footprint 691415520005
pins: 1, 2, 3, 4, 5

## 691415520006
designator J?  (value not drawn)
WR-TBL Series 4155 45° Entry, THT, pitch 5.08mm, 6p; Manufacturer: Wurth Elektronik; Modularity: No; Rated Current: 10A; Working Voltage: 300V; ComponentLink1Description: Website Link; ComponentLink1URL: https://www.we-online.com/redexpert/article/691415520006?ad; ComponentLink2Description: Datasheet Link; ComponentLink2URL: https://www.we-online.com/redexpert/spec/691415520006?ad; Manufacturer Part Number: 691415520006; Category: Terminal Blocks; Match Code: WR-TBL; Mount: Through Hole; Operating Temperature Max: 120°C; Operating Temperature Min: -30°C; Packaging: Box; Application: Screwless; Number of Pins: 6; Number of Rows: 1; Orientation: 45°; Pitch: 5.08mm
footprint 691415520006
pins: 1, 2, 3, 4, 5, 6

## 691415620002
designator J?  (value not drawn)
WR-TBL Series 4156 45° Entry, THT, pitch 10.16mm, 2p; Manufacturer: Wurth Elektronik; Modularity: No; Rated Current: 10A; Working Voltage: 300V; ComponentLink1Description: Website Link; ComponentLink1URL: https://www.we-online.com/redexpert/article/691415620002?ad; ComponentLink2Description: Datasheet Link; ComponentLink2URL: https://www.we-online.com/redexpert/spec/691415620002?ad; Manufacturer Part Number: 691415620002; Category: Terminal Blocks; Match Code: WR-TBL; Mount: Through Hole; Operating Temperature Max: 120°C; Operating Temperature Min: -30°C; Packaging: Box; Application: Screwless; Number of Pins: 2; Number of Rows: 1; Orientation: 45°; Pitch: 10.16mm
footprint 691415620002
pins: 1, 2

## 691415620003
designator J?  (value not drawn)
WR-TBL Series 4156 45° Entry, THT, pitch 10.16mm, 3p; Manufacturer: Wurth Elektronik; Modularity: No; Rated Current: 10A; Working Voltage: 300V; ComponentLink1Description: Website Link; ComponentLink1URL: https://www.we-online.com/redexpert/article/691415620003?ad; ComponentLink2Description: Datasheet Link; ComponentLink2URL: https://www.we-online.com/redexpert/spec/691415620003?ad; Manufacturer Part Number: 691415620003; Category: Terminal Blocks; Match Code: WR-TBL; Mount: Through Hole; Operating Temperature Max: 120°C; Operating Temperature Min: -30°C; Packaging: Box; Application: Screwless; Number of Pins: 3; Number of Rows: 1; Orientation: 45°; Pitch: 10.16mm
footprint 691415620003
pins: 1, 2, 3

## 691416500002
designator J?  (value not drawn)
WR-TBL Series 4165 Vertical Entry, THT, pitch 5.08mm, 2p; Manufacturer: Wurth Elektronik; Modularity: No; Rated Current: 10A; Working Voltage: 300V; ComponentLink1Description: Website Link; ComponentLink1URL: https://www.we-online.com/redexpert/article/691416500002?ad; ComponentLink2Description: Datasheet Link; ComponentLink2URL: https://www.we-online.com/redexpert/spec/691416500002?ad; Manufacturer Part Number: 691416500002; Category: Terminal Blocks; Match Code: WR-TBL; Mount: Through Hole; Operating Temperature Max: 120°C; Operating Temperature Min: -30°C; Packaging: Box; Application: Screwless; Number of Pins: 2; Number of Rows: 1; Orientation: Vertical; Pitch: 5.08mm
footprint 691416500002
pins: 1, 2

## 691416500003
designator J?  (value not drawn)
WR-TBL Series 4165 Vertical Entry, THT, pitch 5.08mm, 3p; Manufacturer: Wurth Elektronik; Modularity: No; Rated Current: 10A; Working Voltage: 300V; ComponentLink1Description: Website Link; ComponentLink1URL: https://www.we-online.com/redexpert/article/691416500003?ad; ComponentLink2Description: Datasheet Link; ComponentLink2URL: https://www.we-online.com/redexpert/spec/691416500003?ad; Manufacturer Part Number: 691416500003; Category: Terminal Blocks; Match Code: WR-TBL; Mount: Through Hole; Operating Temperature Max: 120°C; Operating Temperature Min: -30°C; Packaging: Box; Application: Screwless; Number of Pins: 3; Number of Rows: 1; Orientation: Vertical; Pitch: 5.08mm
footprint 691416500003
pins: 1, 2, 3